# EAGLE library part 9-1393211-0 (library Relays)
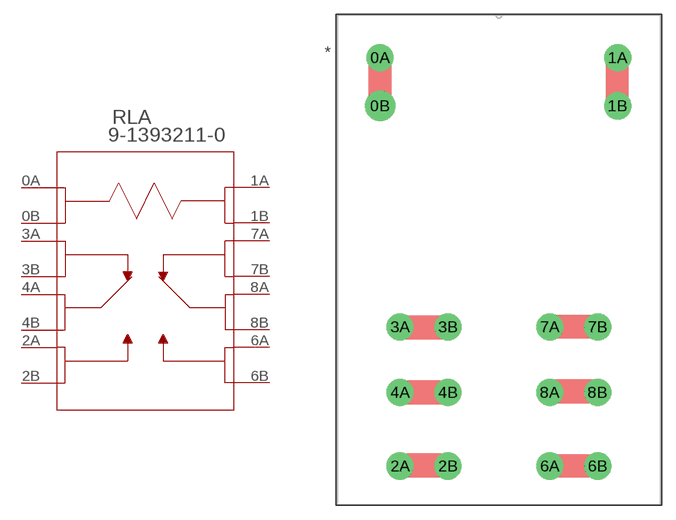
[diagram p68: symbol with the pads of RELAY8_9-1393211-0; footprint RELAY8_9-1393211-0]

Designator prefix RLA

## 9-1393211-0 (BUILT_BY: EMA_Justin; CATEGORY: Power Relays; CONTACT_ARRANGEMENT: 2 Form C (CO); COPYRIGHT: Copyright (C) 2016 Accelerated Designs. All rights reserved; DATASHEET: https://www.te.com/commerce/DocumentDelivery/DDEController?Action=showdoc&DocId=Data+Sheet%7F1308242_T92%7F1217%7Fpdf%7FEnglish%7FENG_DS_1308242_T92_1217.pdf%7F9-1393211-0; DESCRIPTION: T92S11D12-24; MANUFACTURER_PART_NUMBER: 9-1393211-0; MAXIMUM_SWITCHING_CURRENT: -; MAXIMUM_SWITCHING_VOLTAGE: -; PART_STATUS: active; PRODUCT_TYPE: -; RELAY_TYPE: -; SERIES: Potter & Brumfield T92; TE_PART_NUMBER: T92S11D12-24 (9-1393211-0); VENDOR: TE Connectivity)  [RELAY8_9-1393211-0]
0A  0A  pas
0B  0B  pas
1A  0  pas
1B  1B  pas
2A  2A  pas
2B  2B  pas
3A  3A  pas
3B  3B  pas
4A  4A  pas
4B  4B  pas
6A  6A  pas
6B  6B  pas
7A  7A  pas
7B  7B  pas
8A  8A  pas
8B  8B  pas

## Footprint RELAY8_9-1393211-0 (pad centres in mm)
drill 1.93 pad 2.438: 0A 0,0; 1A 25.4,0; 1B 25.4,-5.156; 2A 2.134,-43.688; 2B 7.264,-43.688; 3A 2.134,-28.804; 3B 7.264,-28.804; 4A 2.134,-35.814; 4B 7.264,-35.814; 6A 18.136,-43.688; 6B 23.266,-43.688; 7A 18.136,-28.804; 7B 23.266,-28.804; 8A 18.136,-35.814; 8B 23.266,-35.814
drill 2.261 pad 2.769: 0B 0,-5.156